# EAGLE library part ANYKEY (library everykey)
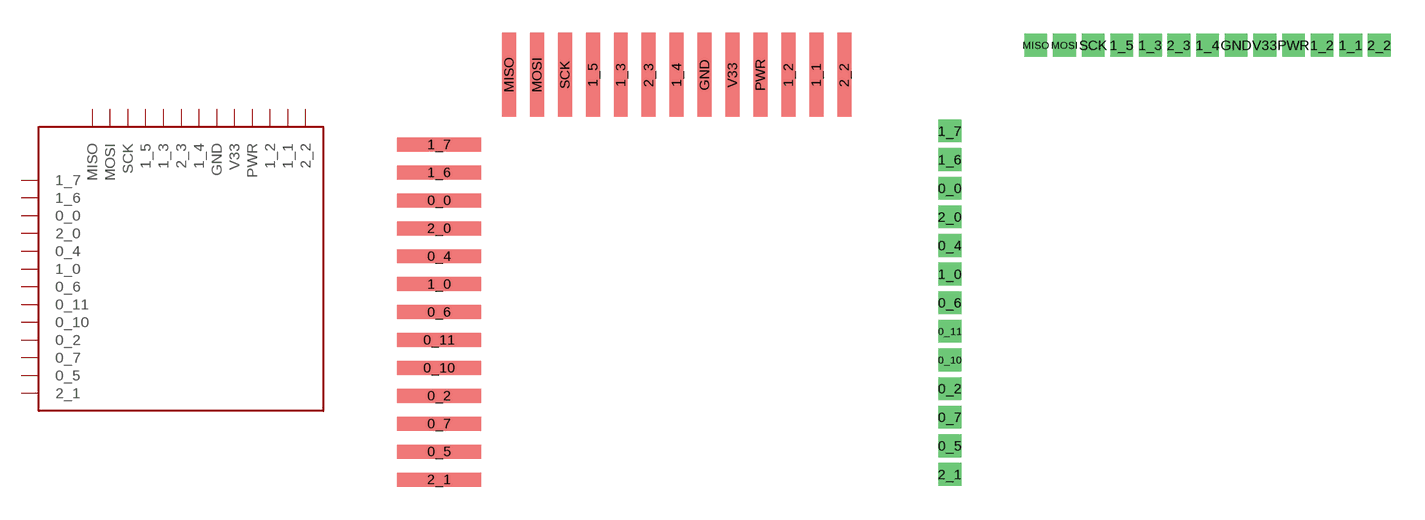
[diagram p11: symbol with the pads of ANYKEY-SMD; footprints ANYKEY-SMD, ANYKEY-THT]

Designator prefix -

## ANYKEYSMD  [ANYKEY-SMD]
0_0  0_0
0_2  0_2
0_4  0_4
0_5  0_5
0_6  0_6
0_7  0_7
0_10  0_10
0_11  0_11
1_0  1_0
1_1  1_1
1_2  1_2
1_3  1_3
1_4  1_4
1_5  1_5
1_6  1_6
1_7  1_7
2_0  2_0
2_1  2_1
2_2  2_2
2_3  2_3
GND  GND
MISO  MISO
MOSI  MOSI
PWR  PWR
SCK  SCK
V33  V33

## ANYKEYTHT  [ANYKEY-THT]
Pads as for ANYKEY-SMD

## Footprint ANYKEY-SMD (pad centres in mm)
smd 3.81 x 0.635: 0_0 -10.795,5.08; 0_2 -10.795,-3.81; 0_4 -10.795,2.54; 0_5 -10.795,-6.35; 0_6 -10.795,0; 0_7 -10.795,-5.08; 0_10 -10.795,-2.54; 0_11 -10.795,-1.27; 1_0 -10.795,1.27; 1_6 -10.795,6.35; 1_7 -10.795,7.62; 2_0 -10.795,3.81; 2_1 -10.795,-7.62
smd 0.635 x 3.81: 1_1 6.35,10.795; 1_2 5.08,10.795; 1_3 -2.54,10.795; 1_4 0,10.795; 1_5 -3.81,10.795; 2_2 7.62,10.795; 2_3 -1.27,10.795; GND 1.27,10.795; MISO -7.62,10.795; MOSI -6.35,10.795; PWR 3.81,10.795; SCK -5.08,10.795; V33 2.54,10.795

## Footprint ANYKEY-THT (pad centres in mm)
drill 0.5 square: 0_0 -11.43,5.08; 0_2 -11.43,-3.81; 0_4 -11.43,2.54; 0_5 -11.43,-6.35; 0_6 -11.43,0; 0_7 -11.43,-5.08; 0_10 -11.43,-2.54; 0_11 -11.43,-1.27; 1_0 -11.43,1.27; 1_1 6.35,11.43; 1_2 5.08,11.43; 1_3 -2.54,11.43; 1_4 0,11.43; 1_5 -3.81,11.43; 1_6 -11.43,6.35; 1_7 -11.43,7.62; 2_0 -11.43,3.81; 2_1 -11.43,-7.62; 2_2 7.62,11.43; 2_3 -1.27,11.43; GND 1.27,11.43; MISO -7.62,11.43; MOSI -6.35,11.43; PWR 3.81,11.43; SCK -5.08,11.43; V33 2.54,11.43